# Altium footprint library fly.PcbLib: 37 footprints (part 2 of 3)
Each footprint in its own frame and in the unit in brackets; x right, y up, seen from the top. Pads: shape width x height; smd on the part's side, far side on the other; paste and mask are expansions set on the pad; w line width, h text height; cw(c..) or ccw(c..) is an arc to the next point about the centre after c.
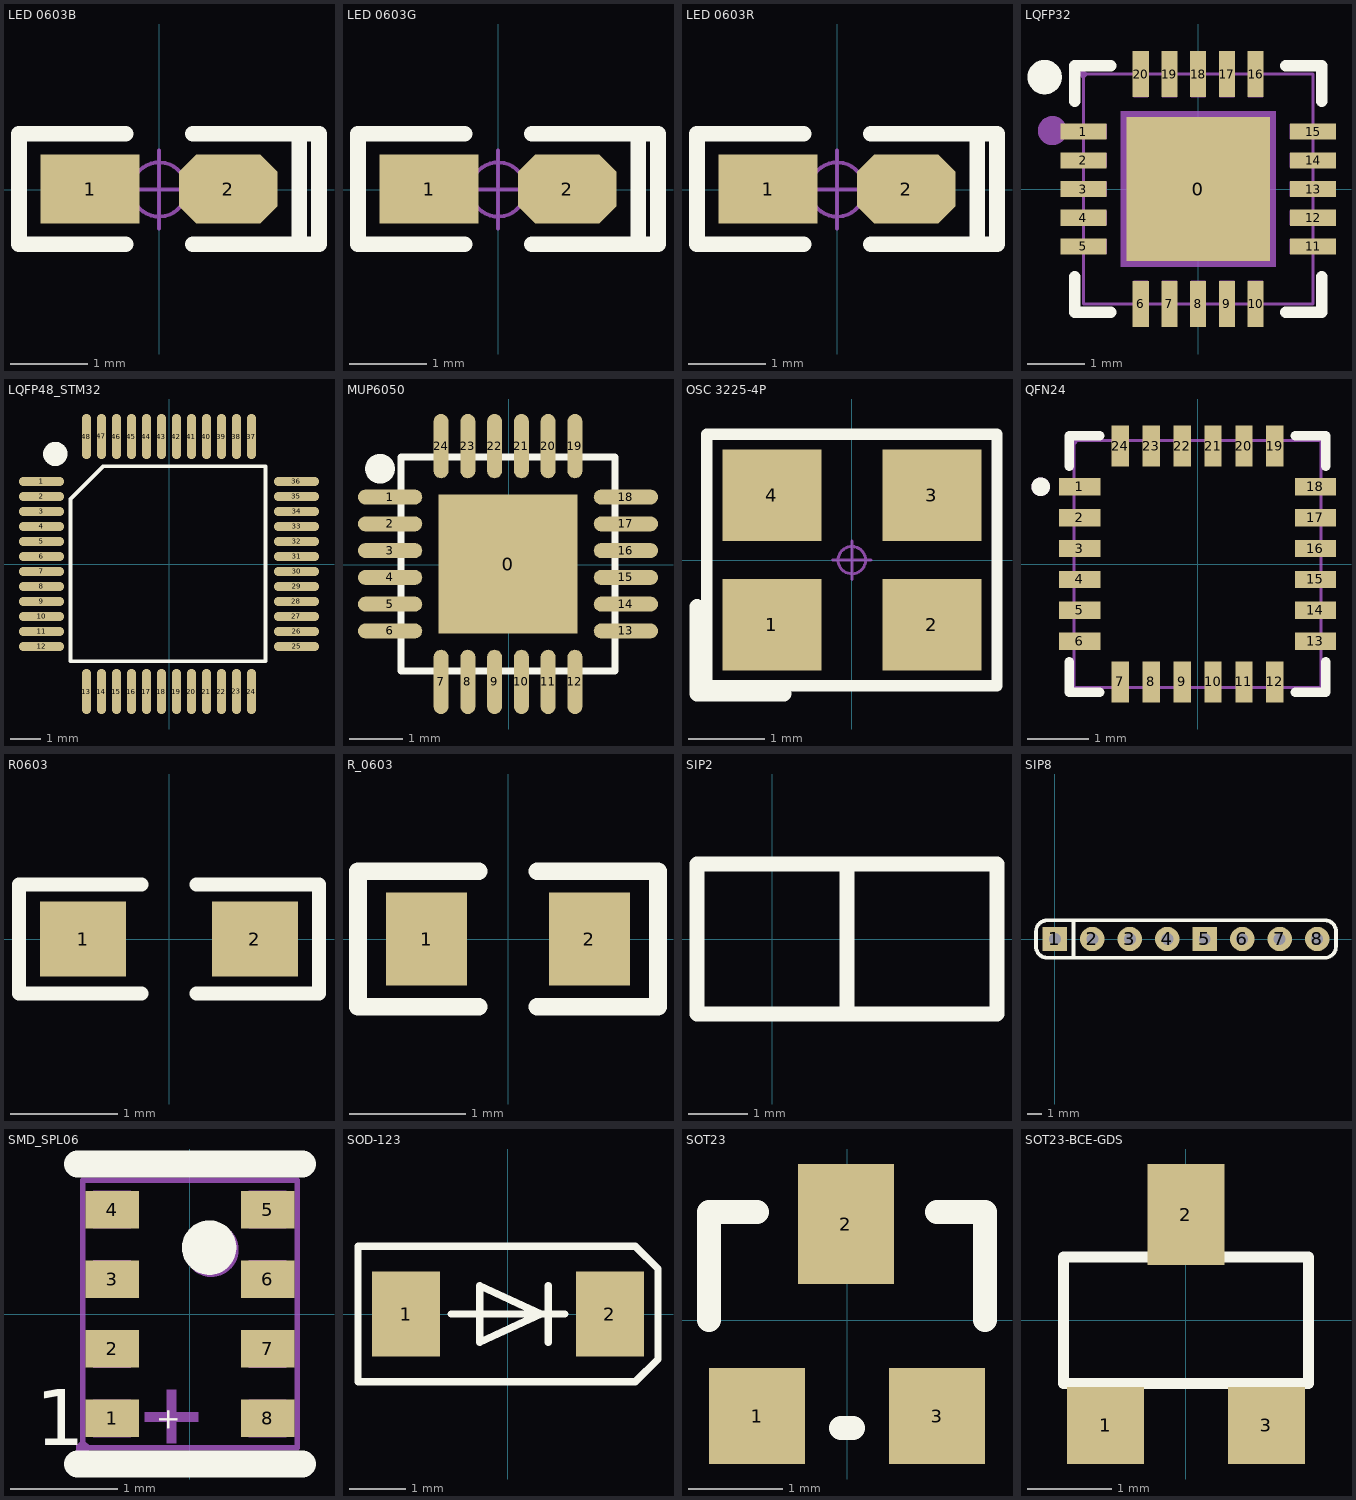
[diagram p1: the footprints below, top view; thin cyan lines are the x and y axes]

## LED 0603B [mil] "蓝色0603LED                             淘宝ID:黄晶宝石"
pads (2):
  rect 50x35 smd: 1(-35,0.26)
  oct 50x35 smd: 2(35,0.26)
Top Overlay:
  lines w8: -17,-27.74 -71,-27.74 -71,-25.74 -71,28.26 -70,28.26 -17,28.26 ; 17,-27.74 70,-27.74 ; 17,28.26 71,28.26 81,28.26 81,-27.74 71,-27.74 71,26.26
Mechanical 15:
  circle w1.97: c0,0 r13.78
  lines w1.97: -19.68,0 19.68,0 ; 0,-19.68 0,19.68
3D body "LED 0603-B.STEP": height 18.36, standoff -0.16, extent -31.49,-15.79 31.5,15.79
3D body "LED 0603玻璃罩.STEP": height 23.82, standoff 8.07, extent -23.58,-15.79 23.58,15.79

## LED 0603G [mil] "绿色0603LED                                   淘宝ID:黄晶宝石"
pads (2):
  rect 50x35 smd: 1(-35,0.26)
  oct 50x35 smd: 2(35,0.26)
Top Overlay:
  lines w8: -17,-27.74 -71,-27.74 -71,-25.74 -71,28.26 -70,28.26 -17,28.26 ; 17,-27.74 70,-27.74 ; 17,28.26 71,28.26 81,28.26 81,-27.74 71,-27.74 71,26.26
Mechanical 15:
  circle w1.97: c0,0 r13.78
  lines w1.97: -19.68,0 19.68,0 ; 0,-19.68 0,19.68
3D body "LED 0603玻璃罩.": height 0, standoff 0, extent 0,0 0,0
3D body "LED 0603-G.STEP": height 18.36, standoff -0.16, extent -31.49,-15.79 31.5,15.79

## LED 0603R [mil] "红色0603LED                                           淘宝ID:黄晶宝石"
pads (2):
  rect 50x35 smd: 1(-35,0.26)
  oct 50x35 smd: 2(35,0.26)
Top Overlay:
  lines w8: -17,-27.74 -71,-27.74 -71,-25.74 -71,28.26 -70,28.26 -17,28.26 ; 17,-27.74 70,-27.74 ; 17,28.26 71,28.26 81,28.26 81,-27.74 71,-27.74 71,26.26
Mechanical 15:
  circle w1.97: c0,0 r13.78
  lines w1.97: -19.68,0 19.68,0 ; 0,-19.68 0,19.68
3D body "LED 0603-R.STEP": height 18.36, standoff -0.16, extent -31.5,-15.79 31.5,15.79
3D body "LED 0603玻璃罩.": height 0, standoff 0, extent 0,0 0,0

## LQFP32 [mm]
pads (21):
  rect 2.5x2.5 smd: 0(0,0)
  rect 0.8x0.28 smd: 1(-2,1) 2(-2,0.5) 3(-2,0) 4(-2,-0.5) 5(-2,-1) 11(2,-1) 12(2,-0.5) 13(2,0) 14(2,0.5) 15(2,1)
  rect 0.28x0.8 smd: 6(-1,-2) 7(-0.5,-2) 8(0,-2) 9(0.5,-2) 10(1,-2) 16(1,2) 17(0.5,2) 18(0,2) 19(-0.5,2) 20(-1,2)
Top Overlay:
  lines w0.2: -2.15,-1.525 -2.15,-2.15 -1.525,-2.15 ; -2.15,1.525 -2.15,2.15 -1.525,2.15 ; 1.525,-2.15 2.15,-2.15 2.15,-1.525 ; 1.525,2.15 2.15,2.15 2.15,1.525
  lines w0.3: -2.525,1.948 cw(c-2.675,1.949) -2.525,1.951
Mechanical 6:
  circle w0.254: c-2.54,1.016 r0.127
Mechanical 15:
  region: -2,1.94 -1.975,1.94 -1.94,1.975 -1.94,2.025 -1.975,2.06 -2,2.06 -2.025,2.06 -2.06,2.025 -2.06,1.975 -2.025,1.94 -2,1.94
  region: 1.35,1.35 1.35,-1.35 -1.35,-1.35 -1.35,1.35
  region: -1.994,-1.125 -1.994,-0.875 -1.594,-0.875 -1.594,-1.125
  region: -1.994,-0.625 -1.994,-0.375 -1.594,-0.375 -1.594,-0.625
  region: -1.994,-0.125 -1.994,0.125 -1.594,0.125 -1.594,-0.125
  region: -1.994,0.375 -1.994,0.625 -1.594,0.625 -1.594,0.375
  region: -1.994,0.875 -1.994,1.125 -1.594,1.125 -1.594,0.875
  region: 1.125,-1.994 0.875,-1.994 0.875,-1.594 1.125,-1.594
  region: 0.625,-1.994 0.375,-1.994 0.375,-1.594 0.625,-1.594
  region: 0.125,-1.994 -0.125,-1.994 -0.125,-1.594 0.125,-1.594
  region: -0.375,-1.994 -0.625,-1.994 -0.625,-1.594 -0.375,-1.594
  region: -0.875,-1.994 -1.125,-1.994 -1.125,-1.594 -0.875,-1.594
  region: 1.994,1.125 1.994,0.875 1.594,0.875 1.594,1.125
  region: 1.994,0.625 1.994,0.375 1.594,0.375 1.594,0.625
  region: 1.994,0.125 1.994,-0.125 1.594,-0.125 1.594,0.125
  region: 1.994,-0.375 1.994,-0.625 1.594,-0.625 1.594,-0.375
  region: 1.994,-0.875 1.994,-1.125 1.594,-1.125 1.594,-0.875
  region: -1.125,1.994 -0.875,1.994 -0.875,1.594 -1.125,1.594
  region: -0.625,1.994 -0.375,1.994 -0.375,1.594 -0.625,1.594
  region: -0.125,1.994 0.125,1.994 0.125,1.594 -0.125,1.594
  region: 0.375,1.994 0.625,1.994 0.625,1.594 0.375,1.594
  region: 0.875,1.994 1.125,1.994 1.125,1.594 0.875,1.594
  lines w0.051: -2,-2 2,-2 2,2 -2,2 -2,-2

## LQFP48_STM32 [mm]
height 6
pads (48):
  oval 1.5x0.3 smd: 1(-4.25,2.75) 2(-4.25,2.25) 3(-4.25,1.75) 4(-4.25,1.25) 5(-4.25,0.75) 6(-4.25,0.25) 7(-4.25,-0.25) 8(-4.25,-0.75) 9(-4.25,-1.25) 10(-4.25,-1.75) 11(-4.25,-2.25) 12(-4.25,-2.75) 25(4.25,-2.75) 26(4.25,-2.25) 27(4.25,-1.75) 28(4.25,-1.25) 29(4.25,-0.75) 30(4.25,-0.25) 31(4.25,0.25) 32(4.25,0.75) 33(4.25,1.25) 34(4.25,1.75) 35(4.25,2.25) 36(4.25,2.75)
  oval 0.3x1.5 smd: 13(-2.75,-4.25) 14(-2.25,-4.25) 15(-1.75,-4.25) 16(-1.25,-4.25) 17(-0.75,-4.25) 18(-0.25,-4.25) 19(0.25,-4.25) 20(0.75,-4.25) 21(1.25,-4.25) 22(1.75,-4.25) 23(2.25,-4.25) 24(2.75,-4.25) 37(2.75,4.25) 38(2.25,4.25) 39(1.75,4.25) 40(1.25,4.25) 41(0.75,4.25) 42(0.25,4.25) 43(-0.25,4.25) 44(-0.75,4.25) 45(-1.25,4.25) 46(-1.75,4.25) 47(-2.25,4.25) 48(-2.75,4.25)
Top Overlay:
  circle w0.5: c-3.791,3.669 r0.155
  lines w0.127: -3.285,-3.244 -3.285,2.166 -2.195,3.256 3.215,3.256 3.215,-3.244 -3.285,-3.244

## MUP6050 [mm]
pads (25):
  rect 2.6x2.6 smd: 0(-0.013,0.013)
  oval 1.2x0.28 smd: 1(-2.213,1.263) 2(-2.213,0.763) 3(-2.213,0.263) 4(-2.213,-0.237) 5(-2.213,-0.737) 6(-2.213,-1.237) 13(2.187,-1.237) 14(2.187,-0.737) 15(2.187,-0.237) 16(2.187,0.263) 17(2.187,0.763) 18(2.187,1.263)
  oval 0.28x1.2 smd: 7(-1.263,-2.187) 8(-0.763,-2.187) 9(-0.263,-2.187) 10(0.237,-2.187) 11(0.737,-2.187) 12(1.237,-2.187) 19(1.237,2.213) 20(0.737,2.213) 21(0.237,2.213) 22(-0.263,2.213) 23(-0.763,2.213) 24(-1.263,2.213)
Top Overlay:
  circle w0.203: c-2.317,1.791 r0.092
  circle w0.203: c-2.402,1.791 r0.176
  lines w0.127: -2.013,-1.987 1.987,-1.987 1.987,2.013 -2.013,2.013 -2.013,-1.987

## OSC 3225-4P [mm] "3.2*2.5*0.7mm(长宽高)"
pads (4):
  rect 1.3x1.2 smd: 1(-1.05,-0.85) 2(1.05,-0.85) 3(1.05,0.85) 4(-1.05,0.85)
Top Overlay:
  lines w0.15: -1.905,-1.651 -1.905,1.651 1.905,1.651 1.905,-1.651 -1.905,-1.651
  lines w0.2: -2.032,-1.753 -0.889,-1.753 ; -2.032,-1.727 -2.032,-0.61
Mechanical 15:
  circle w0.04: c0,0 r0.18
  lines w0.04: -0.254,0 0.254,0 ; 0,-0.254 0,0.254
3D body "OSC 3225-4.STEP": height 0.7, standoff -0.02, extent -1.6,-1.25 1.6,1.25

## QFN24 [mm]
pads (24):
  rect 0.665x0.28 smd paste+0 mask+0.05: 1(-1.908,1.25) 2(-1.908,0.75) 3(-1.908,0.25) 4(-1.908,-0.25) 5(-1.908,-0.75) 6(-1.908,-1.25) 13(1.908,-1.25) 14(1.908,-0.75) 15(1.908,-0.25) 16(1.908,0.25) 17(1.908,0.75) 18(1.908,1.25)
  rect 0.28x0.665 smd paste+0 mask+0.05: 7(-1.25,-1.908) 8(-0.75,-1.908) 9(-0.25,-1.908) 10(0.25,-1.908) 11(0.75,-1.908) 12(1.25,-1.908) 19(1.25,1.908) 20(0.75,1.908) 21(0.25,1.908) 22(-0.25,1.908) 23(-0.75,1.908) 24(-1.25,1.908)
Top Overlay:
  circle w0.15: c-2.54,1.25 r0.075
  lines w0.152: -2.076,-1.58 -2.076,-2.076 -1.58,-2.076 ; -2.076,1.58 -2.076,2.076 -1.58,2.076 ; 1.58,-2.076 2.076,-2.076 2.076,-1.58 ; 1.58,2.076 2.076,2.076 2.076,1.58
Mechanical 6:
  circle w0.15: c-2.54,1.25 r0.075
Mechanical 15:
  region: -1.37,1.6 -1.13,1.6 -1.13,2 -1.37,2
  region: -0.87,1.6 -0.63,1.6 -0.63,2 -0.87,2
  region: -0.37,1.6 -0.13,1.6 -0.13,2 -0.37,2
  region: 0.13,1.6 0.37,1.6 0.37,2 0.13,2
  region: 0.63,1.6 0.87,1.6 0.87,2 0.63,2
  region: 1.13,1.6 1.37,1.6 1.37,2 1.13,2
  region: 2,1.37 1.6,1.37 1.6,1.13 2,1.13
  region: 2,0.87 1.6,0.87 1.6,0.63 2,0.63
  region: 2,0.37 1.6,0.37 1.6,0.13 2,0.13
  region: 2,-0.13 1.6,-0.13 1.6,-0.37 2,-0.37
  region: 2,-0.63 1.6,-0.63 1.6,-0.87 2,-0.87
  region: 2,-1.13 1.6,-1.13 1.6,-1.37 2,-1.37
  region: 1.13,-1.6 1.37,-1.6 1.37,-2 1.13,-2
  region: 0.63,-1.6 0.87,-1.6 0.87,-2 0.63,-2
  region: 0.13,-1.6 0.37,-1.6 0.37,-2 0.13,-2
  region: -0.37,-1.6 -0.13,-1.6 -0.13,-2 -0.37,-2
  region: -0.87,-1.6 -0.63,-1.6 -0.63,-2 -0.87,-2
  region: -1.37,-1.6 -1.13,-1.6 -1.13,-2 -1.37,-2
  region: -2,-1.13 -1.6,-1.13 -1.6,-1.37 -2,-1.37
  region: -2,-0.63 -1.6,-0.63 -1.6,-0.87 -2,-0.87
  region: -2,-0.13 -1.6,-0.13 -1.6,-0.37 -2,-0.37
  region: -2,0.37 -1.6,0.37 -1.6,0.13 -2,0.13
  region: -2,0.87 -1.6,0.87 -1.6,0.63 -2,0.63
  region: -2,1.37 -1.6,1.37 -1.6,1.13 -2,1.13
  region: -2,1.94 -1.975,1.94 -1.94,1.975 -1.94,2.025 -1.975,2.06 -2,2.06 -2.025,2.06 -2.06,2.025 -2.06,1.975 -2.025,1.94 -2,1.94
  lines w0.051: -2,-2 -2,2 2,2 2,-2 -2,-2

## R0603 [mm]
height 6
pads (2):
  rect 0.8x0.7 smd: 1(-0.8,0) 2(0.8,0)
Top Overlay:
  lines w0.127: -0.254,-0.508 -1.397,-0.508 -1.397,0.508 -1.111,0.508 -0.54,0.508 -0.254,0.508 ; 0.254,-0.508 1.397,-0.508 1.397,0.508 0.254,0.508
3D body "User Library-RES_1609-0603.STEP": height 0.56, standoff 0, extent -0.85,-0.406 0.85,0.394

## R_0603 [mm]
height 6
pads (2):
  rect 0.7x0.8 smd: 1(-0.703,0) 2(0.703,0)
Top Overlay:
  lines w0.152: -1.295,-0.584 -1.295,0.584 -0.254,0.584 ; -1.27,-0.584 -0.254,-0.584 ; 0.254,-0.584 1.295,-0.584 1.295,0.584 ; 0.254,0.584 1.27,0.584
3D body "User Library-RES_1609-0603.STEP": height 0.56, standoff 0, extent -0.85,-0.4 0.85,0.4

## SIP2 [mm]
Top Overlay:
  lines w0.254: 1.27,-1.27 1.27,1.27 ; -1.27,-1.27 -1.27,1.27 3.81,1.27 3.81,-1.27 -1.27,-1.27

## SIP8 [mil]
height 216.54
pads (8):
  rect 65x65 hole 32: 1(-0.23,0.07) 5(399.77,0.07)
  round 65 hole 32: 2(99.77,0.07) 3(199.77,0.07) 4(299.77,0.07) 6(499.77,0.07) 7(599.77,0.07) 8(699.77,0.07)
Top Overlay:
  lines w10: 49.77,-49.93 49.77,50.07 ; -50.23,-19.79 ccw(c-20.37,-20.07) -20.65,-49.93 719.63,-49.93 ccw(c719.92,-20.07) 749.77,-20.36 749.77,19.92 ccw(c719.92,20.21) 720.2,50.07 -20.08,50.07 ccw(c-20.37,20.21) -50.23,20.49 -50.23,-19.79
3D body "1001-8.STEP": height 336.22, standoff -118.11, extent -50.22,-49.93 749.78,50.07

## SMD_SPL06 [mm]
pads (8):
  rect 0.5x0.35 smd: 1(-0.725,-0.975) 2(-0.725,-0.325) 3(-0.725,0.325) 4(-0.725,0.975) 5(0.725,0.975) 6(0.725,0.325) 7(0.725,-0.325) 8(0.725,-0.975)
Top Overlay:
  circle w0.254: c0.18,0.62 r0.127
  lines w0.254: -1.05,-1.4 1.05,-1.4 ; -1.05,1.4 1.05,1.4
  text "+" at -0.116,-1.1 h0.2
  text "1" at -1.44,-1.225 h0.52
Mechanical 6:
  circle w0.254: c0.2,0.6 r0.127
  region: -0.42,-0.915 0.08,-0.915 0.08,-1.005 -0.42,-1.005
  region: -0.218,-1.207 -0.218,-0.707 -0.128,-0.707 -0.128,-1.207
Mechanical 15:
  region: -0.94,-1.25 -0.94,-1.225 -0.975,-1.19 -1.025,-1.19 -1.06,-1.225 -1.06,-1.25 -1.06,-1.275 -1.025,-1.31 -0.975,-1.31 -0.94,-1.275 -0.94,-1.25
  region: -0.55,-0.8 -0.55,-1.15 -0.9,-1.15 -0.9,-0.8
  region: -0.55,-0.15 -0.55,-0.5 -0.9,-0.5 -0.9,-0.15
  region: -0.55,0.5 -0.55,0.15 -0.9,0.15 -0.9,0.5
  region: -0.55,1.15 -0.55,0.8 -0.9,0.8 -0.9,1.15
  region: 0.9,1.15 0.9,0.8 0.55,0.8 0.55,1.15
  region: 0.9,0.5 0.9,0.15 0.55,0.15 0.55,0.5
  region: 0.9,-0.15 0.9,-0.5 0.55,-0.5 0.55,-0.15
  region: 0.9,-0.8 0.9,-1.15 0.55,-1.15 0.55,-0.8
  lines w0.051: -1,-1.25 -1,1.25 1,1.25 1,-1.25 -1,-1.25

## SOD-123 [mm]
pads (2):
  rect 1.2x1.5 smd: 1(-1.8,0) 2(1.8,0)
Top Overlay:
  lines w0.13: -1,0 1,0 ; 0.708,-0.5 0.708,0.5 ; -2.65,-1.2 -2.65,1.2 2.25,1.2 2.65,0.8 2.65,-0.8 2.25,-1.2 -2.65,-1.2 ; -0.5,-0.5 -0.5,0.5 0.581,0 -0.5,-0.5
3D body "SOD-123.STEP": height 1.2, standoff 0, extent -1.85,-0.8 1.85,0.8

## SOT23 [mil]
pads (3):
  rect 40x40 smd: 1(-37.5,-40) 3(37.5,-40)
  rect 40x50 smd: 2(-0.5,40)
Top Overlay:
  lines w10: -57.5,0 -57.5,45 -37.5,45 ; -2.5,-45 2.5,-45 ; 37.5,45 57.5,45 57.5,0
3D body "SOT-23-3.STEP": height 47.24, standoff 0, extent -57.26,-51.65 56.92,58.59

## SOT23-BCE-GDS [mil]
pads (3):
  rect 36x36 smd: 1(-37.5,-49.21) 3(37.5,-49.21)
  rect 36x47.24 smd: 2(0,49.21)
Top Overlay:
  lines w5.12: -57.09,-29.53 -57.09,29.53 57.09,29.53 57.09,-29.53 -57.09,-29.53